# Altium footprint library QFN.PcbLib: 84 footprints (part 4 of 6)
Each footprint in its own frame and in the unit in brackets; x right, y up, seen from the top. Pads: shape width x height; smd on the part's side, far side on the other; paste and mask are expansions set on the pad; w line width, h text height; cw(c..) or ccw(c..) is an arc to the next point about the centre after c.
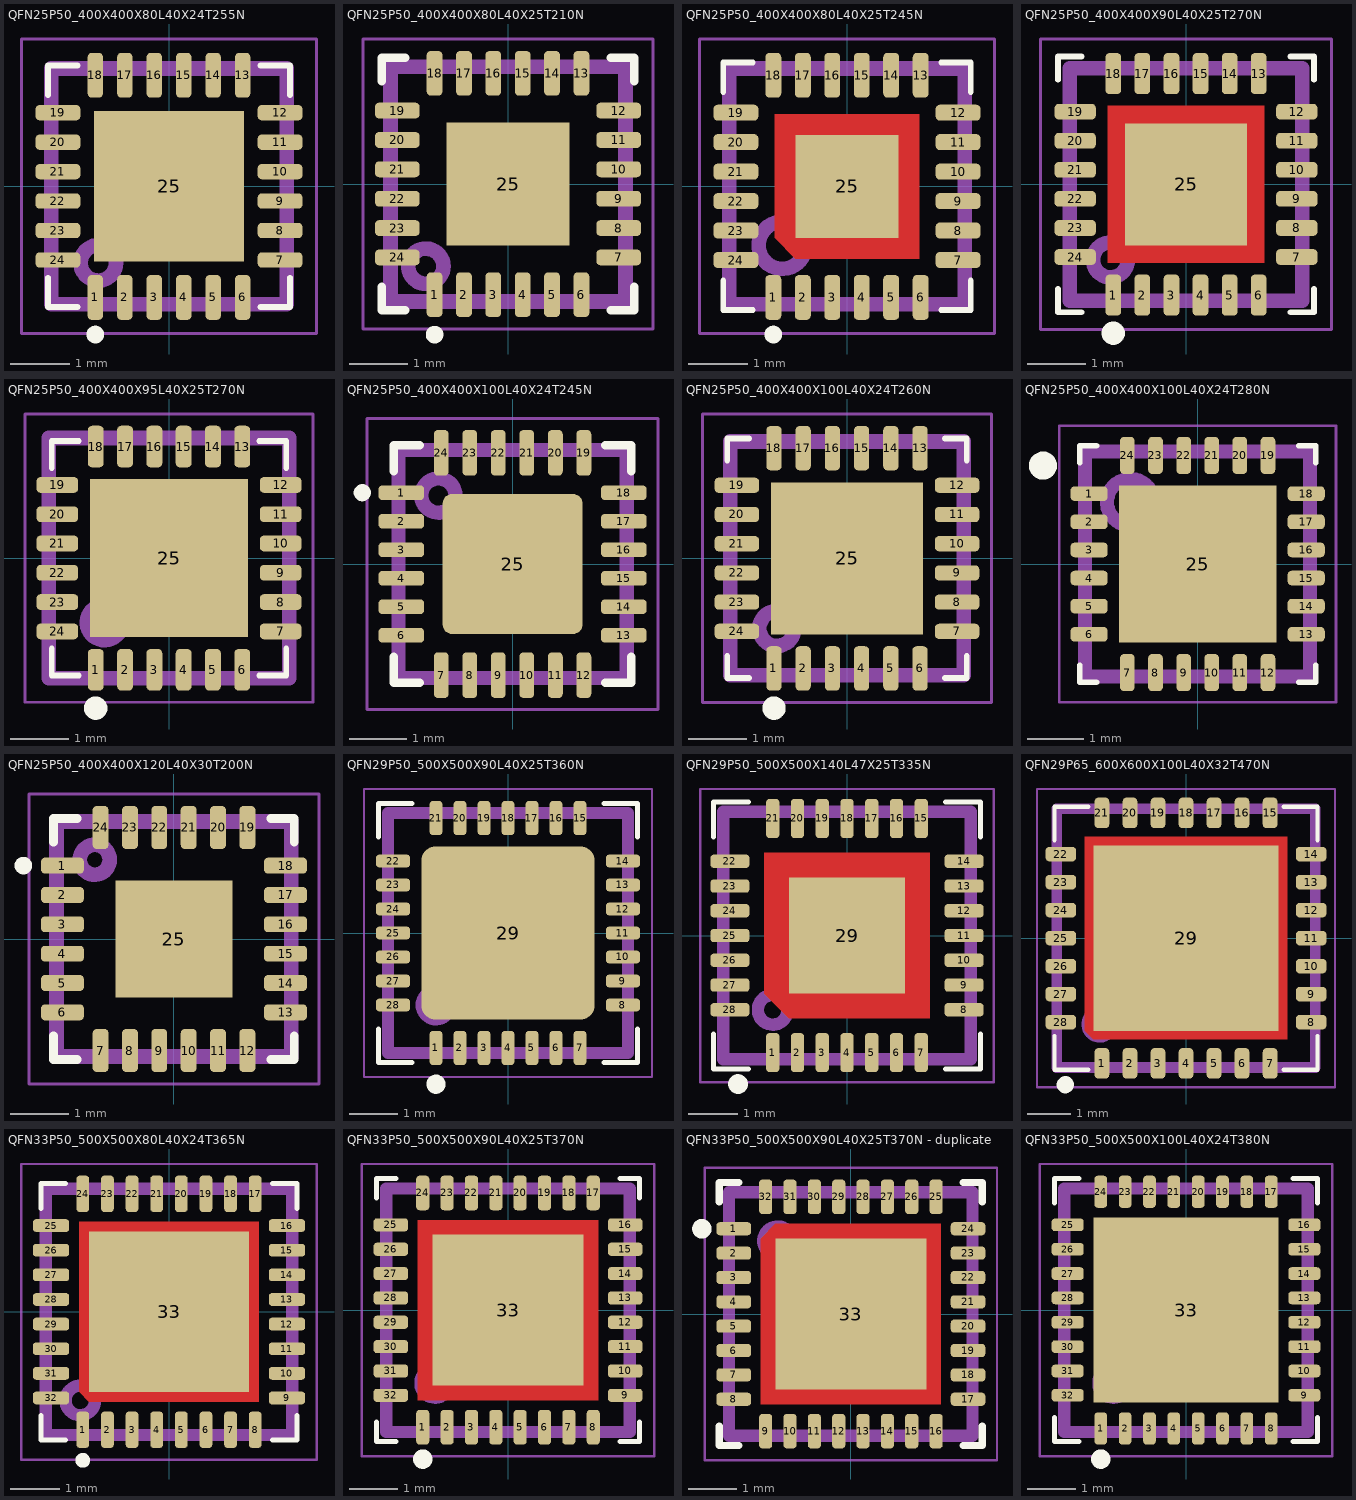
[diagram p3: the footprints below, top view; thin cyan lines are the x and y axes]

## QFN25P50_400X400X80L40X24T255N [mm] "Quad Flat No-Lead (QFN with Tab), 0.50 mm pitch; square, 6 pin X 6 pin, 4.00 mm L X 4.00 mm W X 0.80 mm H body"
height 0.8
pads (25):
  rrect54% 0.26x0.76 smd: 1(-1.25,-1.885) 2(-0.75,-1.885) 3(-0.25,-1.885) 4(0.25,-1.885) 5(0.75,-1.885) 6(1.25,-1.885) 13(1.25,1.885) 14(0.75,1.885) 15(0.25,1.885) 16(-0.25,1.885) 17(-0.75,1.885) 18(-1.25,1.885)
  rrect54% 0.76x0.26 smd: 7(1.885,-1.25) 8(1.885,-0.75) 9(1.885,-0.25) 10(1.885,0.25) 11(1.885,0.75) 12(1.885,1.25) 19(-1.885,1.25) 20(-1.885,0.75) 21(-1.885,0.25) 22(-1.885,-0.25) 23(-1.885,-0.75) 24(-1.885,-1.25)
  rect 2.55x2.55 smd paste-2.55: 25(0,0)
Top Overlay:
  circle w0.15: c-1.25,-2.515 r0.075
  lines w0.1: -2.05,-1.55 -2.05,-2.05 -1.55,-2.05 ; -2.05,1.55 -2.05,2.05 -1.55,2.05 ; 1.55,-2.05 2.05,-2.05 2.05,-1.55 ; 1.55,2.05 2.05,2.05 2.05,1.55
Top Paste:
  region: 1.085,-1.085 0.185,-1.085 0.185,-0.185 1.085,-0.185
  region: 1.085,0.185 0.185,0.185 0.185,1.085 1.085,1.085
  region: -0.185,-1.085 -1.085,-1.085 -1.085,-0.185 -0.185,-0.185
  region: -0.185,0.185 -1.085,0.185 -1.085,1.085 -0.185,1.085
Top Assembly:
  circle w0.25: c-1.2,-1.3 r0.3
  lines w0.25: -2,-2 -2,2 2,2 2,-2 -2,-2
  text ".Designator" at -1.7,-0.4 h1.5
Top Courtyard:
  circle w0.05: c0,0 r0.25
  lines w0.05: -0.35,0 0.35,0 ; 0,-0.35 0,0.35 ; -2.5,-2.5 2.5,-2.5 2.5,2.5 -2.5,2.5 -2.5,-2.5
3D body "QFN25P50_400X400X80L40X24T255.STEP": height 0.8, standoff 0, extent -2.05,-2.05 2.05,2.05

## QFN25P50_400X400X80L40X25T210N [mm] "Quad Flat No-Lead (QFN with Tab), 0.50 mm pitch; square, 6 pin X 6 pin, 4.00 mm L X 4.00 mm W X 0.80 mm H body"
height 0.8
pads (25):
  rrect52% 0.27x0.76 smd: 1(-1.25,-1.885) 2(-0.75,-1.885) 3(-0.25,-1.885) 4(0.25,-1.885) 5(0.75,-1.885) 6(1.25,-1.885) 13(1.25,1.885) 14(0.75,1.885) 15(0.25,1.885) 16(-0.25,1.885) 17(-0.75,1.885) 18(-1.25,1.885)
  rrect52% 0.76x0.27 smd: 7(1.885,-1.25) 8(1.885,-0.75) 9(1.885,-0.25) 10(1.885,0.25) 11(1.885,0.75) 12(1.885,1.25) 19(-1.885,1.25) 20(-1.885,0.75) 21(-1.885,0.25) 22(-1.885,-0.25) 23(-1.885,-0.75) 24(-1.885,-1.25)
  rect 2.1x2.1 smd paste-2.1: 25(0,0)
Top Overlay:
  circle w0.15: c-1.25,-2.565 r0.075
  lines w0.15: -2.15,-1.75 -2.15,-2.15 -1.75,-2.15 ; -2.15,1.75 -2.15,2.15 -1.75,2.15 ; 1.75,-2.15 2.15,-2.15 2.15,-1.75 ; 1.75,2.15 2.15,2.15 2.15,1.75
Top Paste:
  region: -0.155,0.155 -0.895,0.155 -0.895,0.895 -0.155,0.895
  region: -0.155,-0.895 -0.895,-0.895 -0.895,-0.155 -0.155,-0.155
  region: 0.895,0.155 0.155,0.155 0.155,0.895 0.895,0.895
  region: 0.895,-0.895 0.155,-0.895 0.155,-0.155 0.895,-0.155
Top Assembly:
  circle w0.25: c-1.4,-1.4 r0.3
  lines w0.25: -2,-2 2,-2 2,2 -2,2 -2,-2
  text ".Designator" at -3.378,-0.339 h1.5
Top Courtyard:
  circle w0.05: c0,0 r0.25
  lines w0.05: -0.35,0 0.35,0 ; 0,-0.35 0,0.35 ; -2.47,-2.47 2.47,-2.47 2.47,2.47 -2.47,2.47 -2.47,-2.47
3D body "QFN25P50_400X400X80L40X25T210.STEP": height 0.8, standoff 0, extent -2.05,-2.05 2.05,2.05

## QFN25P50_400X400X80L40X25T245N [mm] "Quad Flat No-Lead (QFN with Tab), 0.50 mm pitch; square, 6 pin X 6 pin, 4.00 mm L X 4.00 mm W X 0.80 mm H body"
height 0.8
pads (25):
  rrect52% 0.27x0.76 smd: 1(-1.25,-1.885) 2(-0.75,-1.885) 3(-0.25,-1.885) 4(0.25,-1.885) 5(0.75,-1.885) 6(1.25,-1.885) 13(1.25,1.885) 14(0.75,1.885) 15(0.25,1.885) 16(-0.25,1.885) 17(-0.75,1.885) 18(-1.25,1.885)
  rrect52% 0.76x0.27 smd: 7(1.885,-1.25) 8(1.885,-0.75) 9(1.885,-0.25) 10(1.885,0.25) 11(1.885,0.75) 12(1.885,1.25) 19(-1.885,1.25) 20(-1.885,0.75) 21(-1.885,0.25) 22(-1.885,-0.25) 23(-1.885,-0.75) 24(-1.885,-1.25)
  rect 1.75x1.75 smd paste-1.75 mask-1.75: 25(0,0)
Top Layer:
  region: 1.225,-1.225 -0.875,-1.225 -1.225,-0.875 -1.225,1.225 1.225,1.225
Top Overlay:
  circle w0.15: c-1.25,-2.515 r0.075
  lines w0.1: -2.1,-1.6 -2.1,-2.1 -1.6,-2.1 ; -2.1,1.6 -2.1,2.1 -1.6,2.1 ; 1.6,-2.1 2.1,-2.1 2.1,-1.6 ; 1.6,2.1 2.1,2.1 2.1,1.6
Top Paste:
  region: 1.05,-1.05 0.18,-1.05 0.18,-0.18 1.05,-0.18
  region: 1.05,0.18 0.18,0.18 0.18,1.05 1.05,1.05
  region: -0.18,-1.05 -1.05,-1.05 -1.05,-0.18 -0.18,-0.18
  region: -0.18,0.18 -1.05,0.18 -1.05,1.05 -0.18,1.05
Top Solder:
  region: 1.225,-1.225 -0.875,-1.225 -1.225,-0.875 -1.225,1.225 1.225,1.225
Top Assembly:
  circle w0.25: c-1.1,-1 r0.4
  lines w0.25: -2,-2 -2,2 2,2 2,-2 -2,-2
  text ".Designator" at -1.6,-0.2 h1.5
Top Courtyard:
  circle w0.05: c0,0 r0.25
  lines w0.05: -0.35,0 0.35,0 ; 0,-0.35 0,0.35 ; -2.5,-2.5 -2.5,2.5 2.5,2.5 2.5,-2.5 -2.5,-2.5
3D body "QFN25P50_400X400X80L40X25T245.STEP": height 0.8, standoff 0, extent -2.05,-2.05 2.05,2.05

## QFN25P50_400X400X90L40X25T270N [mm] "Quad Flat No-Lead (QFN with Tab), 0.50 mm pitch; square, 6 pin X 6 pin, 4.00 mm L X 4.00 mm W X 0.90 mm H body"
height 0.9
pads (25):
  rrect52% 0.27x0.71 smd: 1(-1.25,-1.905) 2(-0.75,-1.905) 3(-0.25,-1.905) 4(0.25,-1.905) 5(0.75,-1.905) 6(1.25,-1.905) 13(1.25,1.905) 14(0.75,1.905) 15(0.25,1.905) 16(-0.25,1.905) 17(-0.75,1.905) 18(-1.25,1.905)
  rrect52% 0.71x0.27 smd: 7(1.905,-1.25) 8(1.905,-0.75) 9(1.905,-0.25) 10(1.905,0.25) 11(1.905,0.75) 12(1.905,1.25) 19(-1.905,1.25) 20(-1.905,0.75) 21(-1.905,0.25) 22(-1.905,-0.25) 23(-1.905,-0.75) 24(-1.905,-1.25)
  rect 2.1x2.1 smd paste-2.1 mask-2.1: 25(0,0)
Top Layer:
  region: 1.35,-1.35 -1.35,-1.35 -1.35,1.35 1.35,1.35
Top Overlay:
  circle w0.2: c-1.25,-2.56 r0.1
  lines w0.1: -2.2,-1.8 -2.2,-2.2 -1.8,-2.2 ; -2.2,1.8 -2.2,2.2 -1.8,2.2 ; 1.8,-2.2 2.2,-2.2 2.2,-1.8 ; 1.8,2.2 2.2,2.2 2.2,1.8
Top Paste:
  region: 1.09,-1.09 0.13,-1.09 0.13,-0.13 1.09,-0.13
  region: -0.13,-1.09 -1.09,-1.09 -1.09,-0.13 -0.13,-0.13
  region: -0.13,0.13 -1.09,0.13 -1.09,1.09 -0.13,1.09
  region: 1.09,0.13 0.13,0.13 0.13,1.09 1.09,1.09
Top Solder:
  region: 1.35,-1.35 -1.05,-1.35 -1.35,-1.05 -1.35,1.35 1.35,1.35
Top Assembly:
  circle w0.25: c-1.3,-1.3 r0.3
  lines w0.25: -2,-2 2,-2 2,2 -2,2 -2,-2
  text ".Designator" at -1.7,-0.3 h1.5
Top Courtyard:
  circle w0.05: c0,0 r0.25
  lines w0.05: -0.35,0 0.35,0 ; 0,-0.35 0,0.35 ; -2.5,-2.5 -2.5,2.5 2.5,2.5 2.5,-2.5 -2.5,-2.5
3D body "QFN25P50_400X400X90L40X25T270.STEP": height 0.9, standoff 0, extent -2.05,-2.05 2.05,2.05

## QFN25P50_400X400X95L40X25T270N [mm] "Quad Flat No-Lead (QFN with Tab), 0.50 mm pitch; square, 6 pin X 6 pin, 4.00 mm L X 4.00 mm W X 0.95 mm H body"
height 0.95
pads (25):
  rrect52% 0.27x0.71 smd: 1(-1.25,-1.905) 2(-0.75,-1.905) 3(-0.25,-1.905) 4(0.25,-1.905) 5(0.75,-1.905) 6(1.25,-1.905) 13(1.25,1.905) 14(0.75,1.905) 15(0.25,1.905) 16(-0.25,1.905) 17(-0.75,1.905) 18(-1.25,1.905)
  rrect52% 0.71x0.27 smd: 7(1.905,-1.25) 8(1.905,-0.75) 9(1.905,-0.25) 10(1.905,0.25) 11(1.905,0.75) 12(1.905,1.25) 19(-1.905,1.25) 20(-1.905,0.75) 21(-1.905,0.25) 22(-1.905,-0.25) 23(-1.905,-0.75) 24(-1.905,-1.25)
  rect 2.7x2.7 smd paste-2.7: 25(0,0)
Top Overlay:
  circle w0.2: c-1.25,-2.56 r0.1
  lines w0.1: -2,-1.54 -2,-2 -1.54,-2 ; -2,1.54 -2,2 -1.54,2 ; 1.54,-2 2,-2 2,-1.54 ; 1.54,2 2,2 2,1.54
Top Paste:
  region: 1.09,-1.09 0.13,-1.09 0.13,-0.13 1.09,-0.13
  region: 1.09,0.13 0.13,0.13 0.13,1.09 1.09,1.09
  region: -0.13,-1.09 -1.09,-1.09 -1.09,-0.13 -0.13,-0.13
  region: -0.13,0.13 -1.09,0.13 -1.09,1.09 -0.13,1.09
Top Assembly:
  circle w0.25: c-1.1,-1.1 r0.3
  lines w0.25: -2.05,-2.05 -2.05,2.05 2.05,2.05 2.05,-2.05 -2.05,-2.05
  text ".Designator" at -1.8,-0.3 h1.5
Top Courtyard:
  circle w0.05: c0,0 r0.25
  lines w0.05: -0.35,0 0.35,0 ; 0,-0.35 0,0.35 ; -2.46,-2.46 -2.46,2.46 2.46,2.46 2.46,-2.46 -2.46,-2.46
3D body "QFN25P50_400X400X95L40X25T270.STEP": height 0.95, standoff 0, extent -2.05,-2.05 2.05,2.05

## QFN25P50_400X400X100L40X24T245N [mm] "Quad Flat No-Lead (QFN with Tab), 0.50 mm pitch; square, 6 pin X 6 pin, 4.00 mm L X 4.00 mm W X 1.00 mm H body"
height 1
pads (25):
  rrect54% 0.8x0.26 smd: 1(-1.95,1.25) 2(-1.95,0.75) 3(-1.95,0.25) 4(-1.95,-0.25) 5(-1.95,-0.75) 6(-1.95,-1.25) 13(1.95,-1.25) 14(1.95,-0.75) 15(1.95,-0.25) 16(1.95,0.25) 17(1.95,0.75) 18(1.95,1.25)
  rrect54% 0.26x0.8 smd: 7(-1.25,-1.95) 8(-0.75,-1.95) 9(-0.25,-1.95) 10(0.25,-1.95) 11(0.75,-1.95) 12(1.25,-1.95) 19(1.25,1.95) 20(0.75,1.95) 21(0.25,1.95) 22(-0.25,1.95) 23(-0.75,1.95) 24(-1.25,1.95)
  rrect12% 2.45x2.45 smd paste-2.45: 25(0,0)
Top Overlay:
  circle w0.15: c-2.635,1.25 r0.075
  lines w0.15: -2.08,-1.63 -2.08,-2.08 -1.63,-2.08 ; -2.08,1.63 -2.08,2.08 -1.63,2.08 ; 1.63,-2.08 2.08,-2.08 2.08,-1.63 ; 1.63,2.08 2.08,2.08 2.08,1.63
Top Paste:
  region: -0.99,-0.99 -0.99,-0.12 -0.12,-0.12 -0.12,-0.99
  region: 0.12,-0.99 0.12,-0.12 0.99,-0.12 0.99,-0.99
  region: -0.99,0.12 -0.99,0.99 -0.12,0.99 -0.12,0.12
  region: 0.12,0.12 0.12,0.99 0.99,0.99 0.99,0.12
Top Assembly:
  circle w0.25: c-1.3,1.2 r0.3
  lines w0.25: -2,-2 2,-2 2,2 -2,2 -2,-2
  text ".Designator" at -3.378,-0.339 h1.5
Top Courtyard:
  circle w0.05: c0,0 r0.25
  lines w0.05: -0.35,0 0.35,0 ; 0,-0.35 0,0.35 ; -2.55,-2.55 2.55,-2.55 2.55,2.55 -2.55,2.55 -2.55,-2.55
3D body "CMD170P4.STEP": height 1, standoff 0, extent -2.05,-2.05 2.05,2.05

## QFN25P50_400X400X100L40X24T260N [mm] "Quad Flat No-Lead (QFN with Tab), 0.50 mm pitch; square, 6 pin X 6 pin, 4.00 mm L X 4.00 mm W X 1.00 mm H body"
height 1
pads (25):
  rrect54% 0.26x0.76 smd: 1(-1.25,-1.885) 2(-0.75,-1.885) 3(-0.25,-1.885) 4(0.25,-1.885) 5(0.75,-1.885) 6(1.25,-1.885) 13(1.25,1.885) 14(0.75,1.885) 15(0.25,1.885) 16(-0.25,1.885) 17(-0.75,1.885) 18(-1.25,1.885)
  rrect54% 0.76x0.26 smd: 7(1.885,-1.25) 8(1.885,-0.75) 9(1.885,-0.25) 10(1.885,0.25) 11(1.885,0.75) 12(1.885,1.25) 19(-1.885,1.25) 20(-1.885,0.75) 21(-1.885,0.25) 22(-1.885,-0.25) 23(-1.885,-0.75) 24(-1.885,-1.25)
  rect 2.6x2.6 smd paste-2.6: 25(0,0)
Top Overlay:
  circle w0.2: c-1.25,-2.565 r0.1
  lines w0.1: -2.05,-1.675 -2.05,-2.05 -1.675,-2.05 ; -2.05,1.675 -2.05,2.05 -1.675,2.05 ; 1.675,-2.05 2.05,-2.05 2.05,-1.675 ; 1.675,2.05 2.05,2.05 2.05,1.675
Top Paste:
  region: 1.045,-1.045 0.125,-1.045 0.125,-0.125 1.045,-0.125
  region: 1.045,0.125 0.125,0.125 0.125,1.045 1.045,1.045
  region: -0.125,-1.045 -1.045,-1.045 -1.045,-0.125 -0.125,-0.125
  region: -0.125,0.125 -1.045,0.125 -1.045,1.045 -0.125,1.045
Top Assembly:
  circle w0.25: c-1.2,-1.2 r0.3
  lines w0.25: -2,-2 -2,2 2,2 2,-2 -2,-2
  text ".Designator" at -1.7,-0.3 h1.5
Top Courtyard:
  circle w0.05: c0,0 r0.25
  lines w0.05: -0.35,0 0.35,0 ; 0,-0.35 0,0.35 ; -2.47,-2.47 -2.47,2.47 2.47,2.47 2.47,-2.47 -2.47,-2.47
3D body "QFN25P50_400X400X100L40X24T260.STEP": height 1, standoff 0, extent -2.05,-2.05 2.05,2.05

## QFN25P50_400X400X100L40X24T280N [mm] "Quad Flat No-Lead (QFN with Tab), 0.50 mm pitch; square, 6 pin X 6 pin, 4.00 mm L X 4.00 mm W X 1.00 mm H body"
height 1
pads (25):
  rrect54% 0.66x0.26 smd: 1(-1.93,1.25) 2(-1.93,0.75) 3(-1.93,0.25) 4(-1.93,-0.25) 5(-1.93,-0.75) 6(-1.93,-1.25) 13(1.93,-1.25) 14(1.93,-0.75) 15(1.93,-0.25) 16(1.93,0.25) 17(1.93,0.75) 18(1.93,1.25)
  rrect54% 0.26x0.66 smd: 7(-1.25,-1.93) 8(-0.75,-1.93) 9(-0.25,-1.93) 10(0.25,-1.93) 11(0.75,-1.93) 12(1.25,-1.93) 19(1.25,1.93) 20(0.75,1.93) 21(0.25,1.93) 22(-0.25,1.93) 23(-0.75,1.93) 24(-1.25,1.93)
  rect 2.8x2.8 smd paste-2.8: 25(0,0)
Top Overlay:
  circle w0.25: c-2.75,1.75 r0.125
  lines w0.1: -2.1,-1.8 -2.1,-2.1 -1.8,-2.1 ; -2.1,1.8 -2.1,2.1 -1.8,2.1 ; 1.8,-2.1 2.1,-2.1 2.1,-1.8 ; 1.8,2.1 2.1,2.1 2.1,1.8
Top Paste:
  region: 0.135,0.135 0.135,1.125 1.125,1.125 1.125,0.135
  region: -1.125,0.135 -1.125,1.125 -0.135,1.125 -0.135,0.135
  region: 0.135,-1.125 0.135,-0.135 1.125,-0.135 1.125,-1.125
  region: -1.125,-1.125 -1.125,-0.135 -0.135,-0.135 -0.135,-1.125
Top Assembly:
  circle w0.25: c-1.2,1.1 r0.412
  lines w0.25: -2,0.7 -2,2 -0.7,2 ; -2,0.73 -2,-2 2,-2 2,2 -0.73,2
  text ".Designator" at -1.7,-0.6 h1.5
Top Courtyard:
  circle w0.05: c0,0 r0.25
  lines w0.05: -0.35,0 0.35,0 ; 0,-0.35 0,0.35 ; -2.46,-2.46 -2.46,2.46 2.46,2.46 2.46,-2.46 -2.46,-2.46
3D body "QFN25P50_400X400X100L40X24T280.STEP": height 1, standoff 0, extent -2.05,-2.05 2.05,2.05

## QFN25P50_400X400X120L40X30T200N [mm] "Quad Flat No-Lead (QFN with Tab), 0.50 mm pitch; square, 6 pin X 6 pin, 4.00 mm L X 4.00 mm W X 1.20 mm H body"
height 1.2
pads (25):
  rrect48% 0.73x0.27 smd: 1(-1.9,1.25) 2(-1.9,0.75) 3(-1.9,0.25) 4(-1.9,-0.25) 5(-1.9,-0.75) 6(-1.9,-1.25) 13(1.9,-1.25) 14(1.9,-0.75) 15(1.9,-0.25) 16(1.9,0.25) 17(1.9,0.75) 18(1.9,1.25)
  rrect48% 0.27x0.73 smd: 7(-1.25,-1.9) 8(-0.75,-1.9) 9(-0.25,-1.9) 10(0.25,-1.9) 11(0.75,-1.9) 12(1.25,-1.9) 19(1.25,1.9) 20(0.75,1.9) 21(0.25,1.9) 22(-0.25,1.9) 23(-0.75,1.9) 24(-1.25,1.9)
  rect 2x2 smd paste-2: 25(0,0)
Top Overlay:
  circle w0.15: c-2.565,1.25 r0.075
  lines w0.15: -2.05,-1.65 -2.05,-2.05 -1.65,-2.05 ; -2.05,1.65 -2.05,2.05 -1.65,2.05 ; 1.65,-2.05 2.05,-2.05 2.05,-1.65 ; 1.65,2.05 2.05,2.05 2.05,1.65
Top Paste:
  region: -0.855,-0.855 -0.855,-0.145 -0.145,-0.145 -0.145,-0.855
  region: 0.145,-0.855 0.145,-0.145 0.855,-0.145 0.855,-0.855
  region: -0.855,0.145 -0.855,0.855 -0.145,0.855 -0.145,0.145
  region: 0.145,0.145 0.145,0.855 0.855,0.855 0.855,0.145
Top Assembly:
  circle w0.25: c-1.35,1.35 r0.255
  lines w0.25: -2,-2 -2,2 2,2 2,-2 -2,-2
  text ".Designator" at -3.378,-0.339 h1.5
Top Courtyard:
  circle w0.05: c0,0 r0.25
  lines w0.05: -0.35,0 0.35,0 ; 0,-0.35 0,0.35 ; -2.47,-2.47 -2.47,2.47 2.47,2.47 2.47,-2.47 -2.47,-2.47
3D body "QFN25P50_400X400X120L40X30T200.STEP": height 1.2, standoff 0, extent -2.05,-2.05 2.05,2.05

## QFN29P50_500X500X90L40X25T360N [mm] "Quad Flat No-Lead (QFN with Tab), 0.50 mm pitch; square, 7 pin X 7 pin, 5.00 mm L X 5.00 mm W X 0.90 mm H body"
height 0.9
pads (29):
  rrect52% 0.27x0.71 smd: 1(-1.5,-2.395) 2(-1,-2.395) 3(-0.5,-2.395) 4(0,-2.395) 5(0.5,-2.395) 6(1,-2.395) 7(1.5,-2.395) 15(1.5,2.395) 16(1,2.395) 17(0.5,2.395) 18(0,2.395) 19(-0.5,2.395) 20(-1,2.395) 21(-1.5,2.395)
  rrect52% 0.71x0.27 smd: 8(2.395,-1.5) 9(2.395,-1) 10(2.395,-0.5) 11(2.395,0) 12(2.395,0.5) 13(2.395,1) 14(2.395,1.5) 22(-2.395,1.5) 23(-2.395,1) 24(-2.395,0.5) 25(-2.395,0) 26(-2.395,-0.5) 27(-2.395,-1) 28(-2.395,-1.5)
  rrect15% 3.6x3.6 smd: 29(0,0)
Top Overlay:
  circle w0.2: c-1.5,-3.15 r0.1
  lines w0.1: -2.7,-2 -2.7,-2.7 -2,-2.7 ; -2.7,2 -2.7,2.7 -2,2.7 ; 2,-2.7 2.7,-2.7 2.7,-2 ; 2,2.7 2.7,2.7 2.7,2
Top Assembly:
  circle w0.25: c-1.5,-1.5 r0.3
  lines w0.25: -2.5,-2.5 -2.5,2.5 2.5,2.5 2.5,-2.5 -2.5,-2.5
  text ".Designator" at -2.2,-0.3 h1.5
Top Courtyard:
  circle w0.05: c0,0 r0.25
  lines w0.05: -0.35,0 0.35,0 ; 0,-0.35 0,0.35 ; -3,-3 -3,3 3,3 3,-3 -3,-3
3D body "QFN29P50_500X500X90L40X25T360.STEP": height 0.9, standoff 0, extent -2.55,-2.55 2.55,2.55

## QFN29P50_500X500X140L47X25T335N [mm] "Quad Flat No-Lead (QFN with Tab), 0.50 mm pitch; square, 7 pin X 7 pin, 5.00 mm L X 5.00 mm W X 1.40 mm H body"
height 1.4
pads (29):
  rrect52% 0.27x0.79 smd: 1(-1.5,-2.365) 2(-1,-2.365) 3(-0.5,-2.365) 4(0,-2.365) 5(0.5,-2.365) 6(1,-2.365) 7(1.5,-2.365) 15(1.5,2.365) 16(1,2.365) 17(0.5,2.365) 18(0,2.365) 19(-0.5,2.365) 20(-1,2.365) 21(-1.5,2.365)
  rrect52% 0.79x0.27 smd: 8(2.365,-1.5) 9(2.365,-1) 10(2.365,-0.5) 11(2.365,0) 12(2.365,0.5) 13(2.365,1) 14(2.365,1.5) 22(-2.365,1.5) 23(-2.365,1) 24(-2.365,0.5) 25(-2.365,0) 26(-2.365,-0.5) 27(-2.365,-1) 28(-2.365,-1.5)
  rect 2.35x2.35 smd paste-2.35 mask-2.35: 29(0,0)
Top Layer:
  region: 1.675,-1.675 -1.175,-1.675 -1.675,-1.175 -1.675,1.675 1.675,1.675
Top Overlay:
  circle w0.2: c-2.2,-3 r0.1
  lines w0.1: -2.7,-1.985 -2.7,-2.7 -1.985,-2.7 ; -2.7,1.985 -2.7,2.7 -1.985,2.7 ; 1.985,-2.7 2.7,-2.7 2.7,-1.985 ; 1.985,2.7 2.7,2.7 2.7,1.985
Top Assembly:
  circle w0.25: c-1.5,-1.5 r0.3
  lines w0.25: -2.5,-2.5 -2.5,2.5 2.5,2.5 2.5,-2.5 -2.5,-2.5
  text ".Designator" at -2.2,-0.3 h1.5
Top Courtyard:
  circle w0.05: c0,0 r0.25
  lines w0.05: -0.35,0 0.35,0 ; 0,-0.35 0,0.35 ; -2.96,-2.96 2.96,-2.96 2.96,2.96 -2.96,2.96 -2.96,-2.96
3D body "QFN29P50_500X500X140L47X25T335.STEP": height 1.4, standoff 0, extent -2.55,-2.55 2.55,2.55

## QFN29P65_600X600X100L40X32T470N [mm] "Quad Flat No-Lead (QFN with Tab), 0.65 mm pitch; square, 7 pin X 7 pin, 6.00 mm L X 6.00 mm W X 1.00 mm H body"
height 1
pads (29):
  rrect53% 0.34x0.71 smd: 1(-1.95,-2.905) 2(-1.3,-2.905) 3(-0.65,-2.905) 4(0,-2.905) 5(0.65,-2.905) 6(1.3,-2.905) 7(1.95,-2.905) 15(1.95,2.905) 16(1.3,2.905) 17(0.65,2.905) 18(0,2.905) 19(-0.65,2.905) 20(-1.3,2.905) 21(-1.95,2.905)
  rrect53% 0.71x0.34 smd: 8(2.905,-1.95) 9(2.905,-1.3) 10(2.905,-0.65) 11(2.905,0) 12(2.905,0.65) 13(2.905,1.3) 14(2.905,1.95) 22(-2.905,1.95) 23(-2.905,1.3) 24(-2.905,0.65) 25(-2.905,0) 26(-2.905,-0.65) 27(-2.905,-1.3) 28(-2.905,-1.95)
  rect 4.3x4.3 smd paste-4.3 mask-4.3: 29(0,0)
Top Layer:
  region: 2.35,-2.35 -2.15,-2.35 -2.35,-2.15 -2.35,2.35 2.35,2.35
Top Overlay:
  circle w0.2: c-2.8,-3.4 r0.1
  lines w0.1: -3.05,-2.27 -3.05,-3.05 -2.27,-3.05 ; -3.05,2.27 -3.05,3.05 -2.27,3.05 ; 2.27,-3.05 3.05,-3.05 3.05,-2.27 ; 2.27,3.05 3.05,3.05 3.05,2.27
Top Paste:
  region: 2.005,-2.005 0.345,-2.005 0.345,-0.345 2.005,-0.345
  region: 2.005,0.345 0.345,0.345 0.345,2.005 2.005,2.005
  region: -0.345,-2.005 -2.005,-2.005 -2.005,-0.345 -0.345,-0.345
  region: -0.345,0.345 -2.005,0.345 -2.005,2.005 -0.345,2.005
Top Solder:
  region: 2.35,-2.35 -2.15,-2.35 -2.35,-2.15 -2.35,2.35 2.35,2.35
Top Assembly:
  circle w0.25: c-2,-2 r0.3
  lines w0.25: -3,-3 -3,3 3,3 3,-3 -3,-3
  text ".Designator" at -2.6,-0.3 h1.5
Top Courtyard:
  circle w0.05: c0,0 r0.25
  lines w0.05: -0.35,0 0.35,0 ; 0,-0.35 0,0.35 ; -3.46,-3.46 -3.46,3.46 3.46,3.46 3.46,-3.46 -3.46,-3.46
3D body "QFN29P65_600X600X100L40X32T470.STEP": height 1, standoff 0, extent -3.05,-3.05 3.05,3.05

## QFN33P50_500X500X80L40X24T365N [mm] "Quad Flat No-Lead (QFN with Tab), 0.50 mm pitch; square, 8 pin X 8 pin, 5.00 mm L X 5.00 mm W X 0.80 mm H body"
height 0.8
pads (33):
  rrect54% 0.26x0.74 smd: 1(-1.75,-2.395) 2(-1.25,-2.395) 3(-0.75,-2.395) 4(-0.25,-2.395) 5(0.25,-2.395) 6(0.75,-2.395) 7(1.25,-2.395) 8(1.75,-2.395) 17(1.75,2.395) 18(1.25,2.395) 19(0.75,2.395) 20(0.25,2.395) 21(-0.25,2.395) 22(-0.75,2.395) 23(-1.25,2.395) 24(-1.75,2.395)
  rrect54% 0.74x0.26 smd: 9(2.395,-1.75) 10(2.395,-1.25) 11(2.395,-0.75) 12(2.395,-0.25) 13(2.395,0.25) 14(2.395,0.75) 15(2.395,1.25) 16(2.395,1.75) 25(-2.395,1.75) 26(-2.395,1.25) 27(-2.395,0.75) 28(-2.395,0.25) 29(-2.395,-0.25) 30(-2.395,-0.75) 31(-2.395,-1.25) 32(-2.395,-1.75)
  rect 3.25x3.25 smd paste-3.25 mask-3.25: 33(0,0)
Top Layer:
  region: 1.825,-1.825 -1.625,-1.825 -1.825,-1.625 -1.825,1.825 1.825,1.825
Top Overlay:
  circle w0.15: c-1.75,-3.015 r0.075
  lines w0.1: -2.6,-2.1 -2.6,-2.6 -2.1,-2.6 ; -2.6,2.1 -2.6,2.6 -2.1,2.6 ; 2.1,-2.6 2.6,-2.6 2.6,-2.1 ; 2.1,2.6 2.6,2.6 2.6,2.1
Top Paste:
  region: 1.56,-1.56 0.27,-1.56 0.27,-0.27 1.56,-0.27
  region: 1.56,0.27 0.27,0.27 0.27,1.56 1.56,1.56
  region: -0.27,-1.56 -1.56,-1.56 -1.56,-0.27 -0.27,-0.27
  region: -0.27,0.27 -1.56,0.27 -1.56,1.56 -0.27,1.56
Top Solder:
  region: 1.825,-1.825 -1.625,-1.825 -1.825,-1.625 -1.825,1.825 1.825,1.825
Top Assembly:
  circle w0.25: c-1.8,-1.8 r0.3
  lines w0.25: -2.5,-2.5 -2.5,2.5 2.5,2.5 2.5,-2.5 -2.5,-2.5
  text ".Designator" at -2.2,-0.3 h1.5
Top Courtyard:
  circle w0.05: c0,0 r0.25
  lines w0.05: -0.35,0 0.35,0 ; 0,-0.35 0,0.35 ; -3,-3 -3,3 3,3 3,-3 -3,-3
3D body "QFN33P50_500X500X80L40X24T365.STEP": height 0.8, standoff 0, extent -2.55,-2.55 2.55,2.55

## QFN33P50_500X500X90L40X25T370N [mm] "Quad Flat No-Lead (QFN with Tab), 0.50 mm pitch; square, 8 pin X 8 pin, 5.00 mm L X 5.00 mm W X 0.90 mm H body"
height 0.9
pads (33):
  rrect52% 0.27x0.71 smd: 1(-1.75,-2.405) 2(-1.25,-2.405) 3(-0.75,-2.405) 4(-0.25,-2.405) 5(0.25,-2.405) 6(0.75,-2.405) 7(1.25,-2.405) 8(1.75,-2.405) 17(1.75,2.405) 18(1.25,2.405) 19(0.75,2.405) 20(0.25,2.405) 21(-0.25,2.405) 22(-0.75,2.405) 23(-1.25,2.405) 24(-1.75,2.405)
  rrect52% 0.71x0.27 smd: 9(2.405,-1.75) 10(2.405,-1.25) 11(2.405,-0.75) 12(2.405,-0.25) 13(2.405,0.25) 14(2.405,0.75) 15(2.405,1.25) 16(2.405,1.75) 25(-2.405,1.75) 26(-2.405,1.25) 27(-2.405,0.75) 28(-2.405,0.25) 29(-2.405,-0.25) 30(-2.405,-0.75) 31(-2.405,-1.25) 32(-2.405,-1.75)
  rect 3.1x3.1 smd paste-3.1 mask-3.1: 33(0,0)
Top Layer:
  region: 1.85,-1.85 -1.85,-1.85 -1.85,1.85 1.85,1.85
Top Overlay:
  circle w0.2: c-1.75,-3.06 r0.1
  lines w0.1: -2.7,-2.3 -2.7,-2.7 -2.3,-2.7 ; -2.7,2.3 -2.7,2.7 -2.3,2.7 ; 2.3,-2.7 2.7,-2.7 2.7,-2.3 ; 2.3,2.7 2.7,2.7 2.7,2.3
Top Paste:
  region: 1.49,-1.49 0.18,-1.49 0.18,-0.18 1.49,-0.18
  region: 1.49,0.18 0.18,0.18 0.18,1.49 1.49,1.49
  region: -0.18,-1.49 -1.49,-1.49 -1.49,-0.18 -0.18,-0.18
  region: -0.18,0.18 -1.49,0.18 -1.49,1.49 -0.18,1.49
Top Solder:
  region: 1.85,-1.85 -1.85,-1.85 -1.85,1.85 1.85,1.85
Top Assembly:
  circle w0.25: c-1.5,-1.5 r0.3
  lines w0.25: -2.5,-2.5 -2.5,2.5 2.5,2.5 2.5,-2.5 -2.5,-2.5
  text ".Designator" at -2.3,-0.3 h1.5
Top Courtyard:
  circle w0.05: c0,0 r0.25
  lines w0.05: -0.35,0 0.35,0 ; 0,-0.35 0,0.35 ; -3,-3 -3,3 3,3 3,-3 -3,-3
3D body "QFN33P50_500X500X90L40X25T370.STEP": height 0.9, standoff 0, extent -2.55,-2.55 2.55,2.55

## QFN33P50_500X500X90L40X25T370N - duplicate [mm] "Quad Flat No-Lead (QFN with Tab), 0.50 mm pitch; square, 8 pin X 8 pin, 5.00 mm L X 5.00 mm W X 0.90 mm H body"
height 0.9
pads (33):
  rrect52% 0.71x0.27 smd: 1(-2.405,1.75) 2(-2.405,1.25) 3(-2.405,0.75) 4(-2.405,0.25) 5(-2.405,-0.25) 6(-2.405,-0.75) 7(-2.405,-1.25) 8(-2.405,-1.75) 17(2.405,-1.75) 18(2.405,-1.25) 19(2.405,-0.75) 20(2.405,-0.25) 21(2.405,0.25) 22(2.405,0.75) 23(2.405,1.25) 24(2.405,1.75)
  rrect52% 0.27x0.71 smd: 9(-1.75,-2.405) 10(-1.25,-2.405) 11(-0.75,-2.405) 12(-0.25,-2.405) 13(0.25,-2.405) 14(0.75,-2.405) 15(1.25,-2.405) 16(1.75,-2.405) 25(1.75,2.405) 26(1.25,2.405) 27(0.75,2.405) 28(0.25,2.405) 29(-0.25,2.405) 30(-0.75,2.405) 31(-1.25,2.405) 32(-1.75,2.405)
  rect 3.1x3.1 smd paste-3.1 mask-3.1: 33(0,0)
Top Layer:
  region: -1.85,-1.85 -1.85,1.55 -1.55,1.85 1.85,1.85 1.85,-1.85
Top Overlay:
  circle w0.2: c-3.06,1.75 r0.1
  lines w0.15: -2.7,-2.3 -2.7,-2.7 -2.3,-2.7 ; -2.7,2.3 -2.7,2.7 -2.3,2.7 ; 2.3,-2.7 2.7,-2.7 2.7,-2.3 ; 2.3,2.7 2.7,2.7 2.7,2.3
Top Paste:
  region: 0.18,0.18 0.18,1.49 1.49,1.49 1.49,0.18
  region: -1.49,0.18 -1.49,1.49 -0.18,1.49 -0.18,0.18
  region: 0.18,-1.49 0.18,-0.18 1.49,-0.18 1.49,-1.49
  region: -1.49,-1.49 -1.49,-0.18 -0.18,-0.18 -0.18,-1.49
Top Solder:
  region: -1.85,-1.85 -1.85,1.55 -1.55,1.85 1.85,1.85 1.85,-1.85
Top Assembly:
  circle w0.25: c-1.5,1.5 r0.3
  lines w0.25: -2.5,-2.5 -2.5,2.5 2.5,2.5 2.5,-2.5 -2.5,-2.5
  text ".Designator" at -2.3,-0.3 h1.5
Top Courtyard:
  circle w0.05: c0,0 r0.25
  lines w0.05: -0.35,0 0.35,0 ; 0,-0.35 0,0.35 ; -3,-3 -3,3 3,3 3,-3 -3,-3
3D body "QFN33P50_500X500X90L40X25T370.STEP": height 0.9, standoff 0, extent -2.55,-2.55 2.55,2.55

## QFN33P50_500X500X100L40X24T380N [mm] "Quad Flat No-Lead (QFN with Tab), 0.50 mm pitch; square, 8 pin X 8 pin, 5.00 mm L X 5.00 mm W X 1.00 mm H body"
height 1
pads (33):
  rrect54% 0.26x0.66 smd: 1(-1.75,-2.43) 2(-1.25,-2.43) 3(-0.75,-2.43) 4(-0.25,-2.43) 5(0.25,-2.43) 6(0.75,-2.43) 7(1.25,-2.43) 8(1.75,-2.43) 17(1.75,2.43) 18(1.25,2.43) 19(0.75,2.43) 20(0.25,2.43) 21(-0.25,2.43) 22(-0.75,2.43) 23(-1.25,2.43) 24(-1.75,2.43)
  rrect54% 0.66x0.26 smd: 9(2.43,-1.75) 10(2.43,-1.25) 11(2.43,-0.75) 12(2.43,-0.25) 13(2.43,0.25) 14(2.43,0.75) 15(2.43,1.25) 16(2.43,1.75) 25(-2.43,1.75) 26(-2.43,1.25) 27(-2.43,0.75) 28(-2.43,0.25) 29(-2.43,-0.25) 30(-2.43,-0.75) 31(-2.43,-1.25) 32(-2.43,-1.75)
  rect 3.8x3.8 smd paste-3.8: 33(0,0)
Top Overlay:
  circle w0.2: c-1.75,-3.06 r0.1
  lines w0.1: -2.7,-2.2 -2.7,-2.7 -2.2,-2.7 ; -2.7,2.2 -2.7,2.7 -2.2,2.7 ; 2.2,-2.7 2.7,-2.7 2.7,-2.2 ; 2.2,2.7 2.7,2.7 2.7,2.2
Top Paste:
  region: -0.185,0.185 -1.525,0.185 -1.525,1.525 -0.185,1.525
  region: -0.185,-1.525 -1.525,-1.525 -1.525,-0.185 -0.185,-0.185
  region: 1.525,0.185 0.185,0.185 0.185,1.525 1.525,1.525
  region: 1.525,-1.525 0.185,-1.525 0.185,-0.185 1.525,-0.185
Top Assembly:
  circle w0.25: c-1.5,-1.5 r0.3
  lines w0.25: -2.5,-2.5 2.5,-2.5 2.5,2.5 -2.5,2.5 -2.5,-2.5
  text ".Designator" at -2.2,-0.4 h1.5
Top Courtyard:
  circle w0.05: c0,0 r0.25
  lines w0.05: -0.35,0 0.35,0 ; 0,-0.35 0,0.35 ; -3,-3 3,-3 3,3 -3,3 -3,-3
3D body "QFN33P50_500X500X100L40X24T380.STEP": height 1, standoff 0, extent -2.55,-2.55 2.55,2.55